# Altium footprint library FootPrintLib_4.PcbLib: 700 footprints (part 13 of 44)
Each footprint in its own frame and in the unit in brackets; x right, y up, seen from the top. Pads: shape width x height; smd on the part's side, far side on the other; paste and mask are expansions set on the pad; w line width, h text height; cw(c..) or ccw(c..) is an arc to the next point about the centre after c.
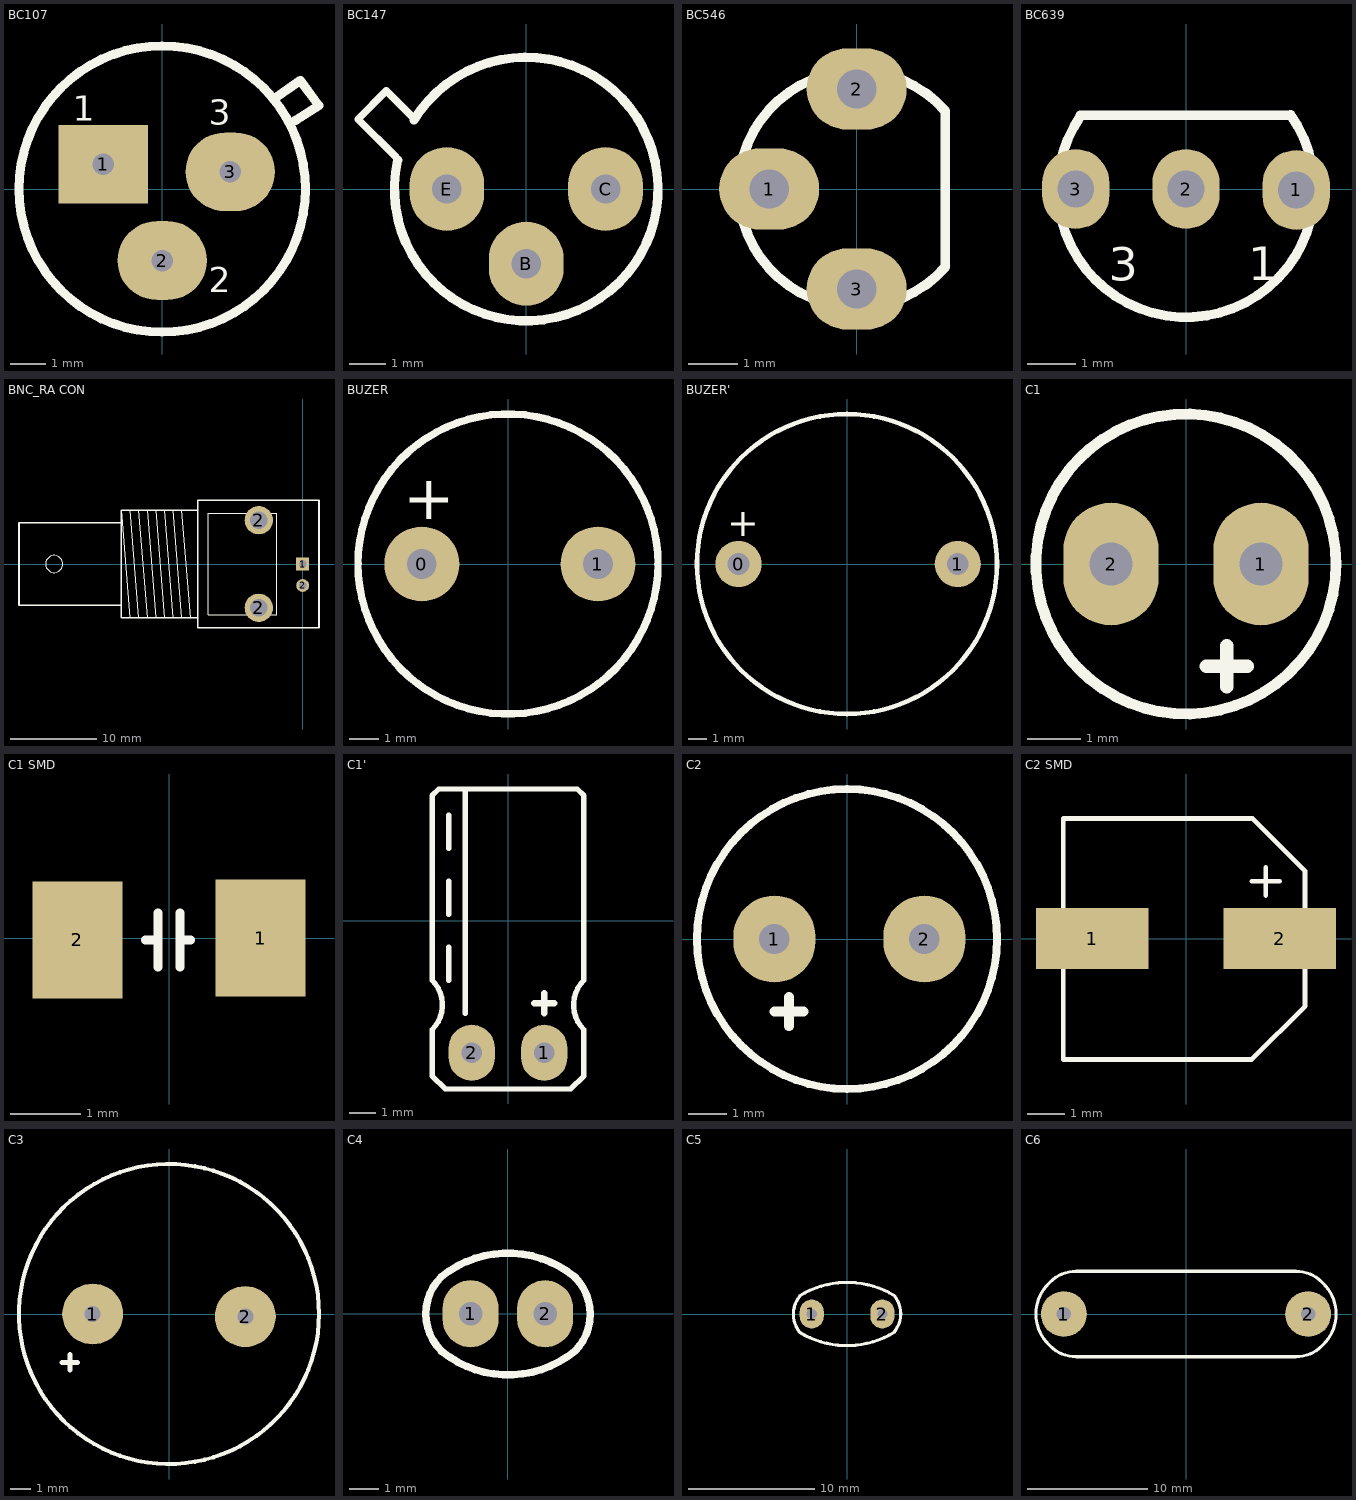
[diagram p12: the footprints below, top view; thin cyan lines are the x and y axes]

## BC107 [mm]
pads (3):
  rect 2.5x2.2 hole 0.6: 1(-1.64,0.69)
  oval 2.5x2.2 hole 0.6: 2(0,-2) 3(1.9,0.48)
Top Overlay:
  circle w0.254: c0,0 r4
  lines w0.254: 3.14,2.54 3.86,3.03 4.38,2.33 3.73,1.92
  text "3" at 1.295,1.79 h0.7
  text "1" at -2.5,1.9 h0.7
  text "2" at 1.295,-2.88 h0.7

## BC147 [mil]
pads (3):
  oval 80x90 hole 31.5: B(0,-80) C(85,0) E(-85,0)
Top Overlay:
  lines w8: -140,34.57 -180.22,74.78 -149.78,105.22 -118.88,74.31
  lines w10: -137.79,30.62 ccw(c0,0) -120.22,73.98

## BC546 [mil]
pads (3):
  oval 80x65 hole 31.5: 1(-70,0) 2(0,80) 3(0,-80)
Top Overlay:
  lines w7.87: 70.87,-62.48 70.87,62.48 ; 70.88,-62.49 cw(c0,0) 70.88,62.49

## BC639 [mil] "NPN Transistorq"
height 322.83
pads (3):
  oval 55x65 hole 30: 1(90,-0.79) 2(0,0) 3(-90,0)
Top Overlay:
  lines w7.87: -86.22,60.24 84.65,60.24 ; -85.85,59.98 ccw(c0,0) 85.32,60.72
  text "1" at 51,-74.41 h27.56
  text "3" at -62.99,-74.8 h27.56
3D body "SW3dPS-TO-92A.STEP": height 314.96, standoff -118.11, extent -90.55,-94.49 98.43,60.24

## BNC_RA CON [mm] "Connector; BNC Elbow"
pads (4):
  rect 1.5x1.5 hole 0.9: 1(0,0)
  round 3.3 hole 2: 2(-5.1,-5.1) 2(-5.1,5.1)
  round 1.5 hole 0.9: 2(0,-2.5)
Top Overlay:
  circle w0.025: c-28.9,0 r1
  lines w0.025: -20.1,-6.25 -21.1,6.25 ; -20.1,6.25 -19.1,-6.25 ; -19.1,6.25 -18.1,-6.25 ; -18.1,6.25 -17.1,-6.25 ; -17.1,6.25 -16.1,-6.25 ; -16.1,6.25 -15.1,-6.25 ; -15.1,6.25 -14.1,-6.25 ; -14.1,6.25 -13.1,-6.25 ; -21.1,-4.8 -33,-4.8 -33,4.8 -21.1,4.8 ; -21.1,-4.8 -21.1,4.8 ; -21.1,-4.8 -21.1,-6.25 -12.2,-6.25 ; -21.1,4.8 -21.1,6.25 ; -21.1,6.25 -12.2,6.25 ; -12.2,-6.25 -12.2,6.25 ; -12.2,-6.25 -12.2,-7.4 1.9,-7.4 1.9,7.4 -12.2,7.4 -12.2,6.25 ; -11,-5.9 -3,-5.9 -3,5.9 -11,5.9 -11,-5.9
  lines w0.2: -21.1,-4.8 -21.1,4.8 ; -21.1,-4.8 -33,-4.8 -33,4.8 -21.1,4.8 ; -21.1,-4.8 -21.1,-6.25 -12.2,-6.25 ; -21.1,4.8 -21.1,6.25 -12.2,6.25 ; -12.2,-6.25 -12.2,6.25 ; -12.2,-6.25 -12.2,-7.4 1.9,-7.4 1.9,7.4 -12.2,7.4 -12.2,6.25

## BUZER [mm]
pads (2):
  round 2.54 hole 1: 0(-2.921,0) 1(3.048,0)
Top Overlay:
  circle w0.254: c0,0 r5.08
  text "+" at -3.556,1.524 h1.52

## BUZER' [mm]
pads (2):
  round 2.54 hole 1.2: 0(-5.969,0) 1(6.096,0)
Top Overlay:
  circle w0.254: c0,0 r8.255
  text "+" at -6.604,1.524 h1.52

## C1 [mil] "Diameter: 5.5'mm"
pads (2):
  oval 70x90 hole 31.5: 1(55,0) 2(-55,0)
Top Overlay:
  circle w8: c0,0 r110
  lines w10: 15,-75 45,-75 ; 30,-90 30,-60

## C1 SMD [mil]
pads (2):
  rect 50x65 smd: 1(51,0) 2(-51,-1)
Top Overlay:
  lines w5: -13,-1 -6,-1 ; -6,-16 -6,14 ; 6,-16 6,14 ; 6,-1 12,-1

## C1' [mil] "Diameter: 6'mm"
pads (2):
  oval 70x85 hole 31.5: 1(55,-200) 2(-55,-200)
Top Overlay:
  lines w8: -90,-90 -90,-40 ; -90,10 -90,60 ; -90,110 -90,160 ; -65,-140 -65,200 ; -115,-235 -95,-255 95,-255 115,-235 115,-165 cw(c152.5,-127.5) 115,-90 115,190 105,200 -105,200 -115,190 -115,-90 cw(c-152.5,-127.5) -115,-165 -115,-235
  lines w10: 40,-125 70,-125 ; 55,-140 55,-110

## C2 [mil] "Diameter: 8'mm"
pads (2):
  oval 85x90 hole 31.5: 1(-75,0) 2(80,0)
Top Overlay:
  circle w8: c0,0 r155
  lines w10: -75,-75 -45,-75 ; -60,-90 -60,-60

## C2 SMD [mil]
pads (2):
  rect 120x65 smd: 1(-100,0) 2(100,0)
Top Overlay:
  lines w5: 70,61 100,61 ; 85,46 85,76 ; -131,-129 70,-129 127,-72 127,72 71,128 -131,128 -131,-129

## C3 [mil] "Diameter: 15'mm"
pads (2):
  round 120 hole 31.5: 1(-150,0) 2(150,-5)
Top Overlay:
  circle w8: c0,0 r295
  lines w10: -210,-95 -180,-95 ; -195,-110 -195,-80

## C4 [mm] "104"
pads (2):
  oval 1.905x2.286 hole 0.8: 1(-1.27,0) 2(1.27,0)
Top Overlay:
  lines w0.254: -2.272,-1.258 cw(c-1.014,0) -2.272,1.258 cw(c0,-1.524) 2.286,1.247 ; -2.261,-1.272 ccw(c0.011,1.51) 2.286,-1.27 ccw(c1.028,-0.012) 2.286,1.246

## C5 [mil]
pads (2):
  oval 75x90 hole 31.5: 1(-110,0) 2(110,0)
Top Overlay:
  lines w10: -146.26,57.09 ccw(c-76.75,-0.6) -146.86,-57.57 ccw(c-0.59,184.52) 145.67,-57.57 ; -145.91,57.68 cw(c0.36,-184.41) 146.92,57.5 cw(c76.75,0.6) 146.26,-57.09

## C6 [mm]
pads (2):
  round 3.81 hole 1.2: 1(-10.16,0) 2(10.16,0)
Top Overlay:
  lines w0.254: -11.43,-2.54 cw(c-8.89,0) -11.43,2.54 -11.312,2.658 cw(c-9.144,0.49) -9.144,3.556 9.144,3.556 cw(c9.144,0.49) 11.312,2.658 11.43,2.54 cw(c8.89,0) 11.43,-2.54 11.312,-2.658 cw(c9.144,-0.49) 9.144,-3.556 -9.144,-3.556 cw(c-9.144,-0.49) -11.312,-2.658 -11.43,-2.54